# Altium schematic symbol library AXE526124.SchLib: 2 symbols
Pins are listed as number, name and electrical type; pins without a type are passive.

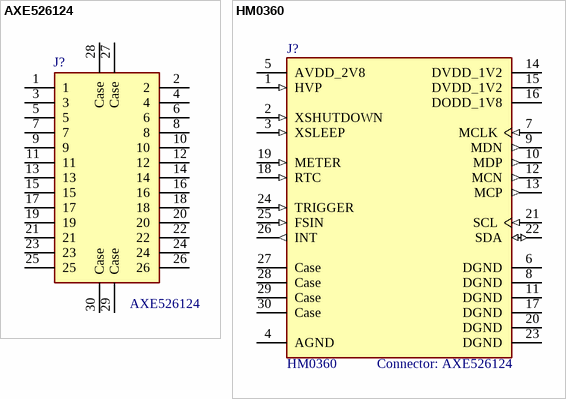
[diagram p0: symbols AXE526124 to HM0360]

## AXE526124
designator J?
26 Position Connector Socket, Center Strip Contacts Surface Mount Gold; Manufacturer_Name: Panasonic; Geometry.Height: 0.97mm; Mouser Part Number: *; Mouser Price/Stock: *; Manufacturer_Part_Number: AXE526124; Datasheet Link: https://www.alldatasheet.com/datasheet-pdf/pdf/393505/PANASONIC/AXE526124.html
footprint AXE526124
pins: 1, 2, 3, 4, 5, 6, 7, 8, 9, 10, 11, 12, 13, 14, 15, 16, 17, 18, 19, 20, 21, 22, 23, 24, 25, 26, 27 Case, 28 Case, 29 Case, 30 Case

## HM0360
designator J?, comment Connector: AXE526124  Camera: HM0360
FFC/FPC Connector, 26 Contact(s), 2 Row(s), Female, Straight, Surface Mount Terminal, Socket; Manufacturer: Panasonic; Connector Type: CARD EDGE CONNECTOR; Option: General Purpose; Filter Feature: No; Mating Information: MULTIPLE MATING PARTS AVAILABLE; Number of Rows Loaded: 2; Number of Contacts: 26; Manufacturer Part Number: AXE526124; RoHS: Yes; Category: Connectors; Mount: Board; Contact Material: Copper Alloy; Contact Finish - Mating: GOLD OVER NICKEL; Contact Finish - Termination: Gold (Au) - with Nickel (Ni) barrier; JESD-609 Code: e4; Body/Shell Style: SOCKET; Contact Gender: Female; Mixed Contacts: No; Mounting Style: STRAIGHT; Termination: SMD/SMT; Terminal Pitch: 0.4mm; Flammability Rating: UL94 V-0; DIN Conformance: No; IEC Conformance: No; MIL Conformance: No; Reach SVHC Compliant: Yes; RoHS Compliant: Yes
footprint AXE526124_HM0360
pins: 1 HVP (in) "Place an external capacitor if the internal OTP pump is used.", 2 XSHUTDOWN (in) "Reset and dpower down control pin (active low)", 3 XSLEEP (in) "Low power sleep mode (active low)", 4 AGND (power), 5 AVDD_2V8 (power), 6 DGND (power), 7 MCLK (in) "Master clock input", 8 DGND (power), 9 MDN (out) "MIPI data negative output", 10 MDP (out) "MIPI data positive output", 11 DGND (power), 12 MCN (out) "MIPI clock negative output", 13 MCP (out) "MIPI clock positive output", 14 DVDD_1V2 (power), 15 DVDD_1V2 (power), 16 DODD_1V8 (power), 17 DGND (power), 18 RTC (in) "Real time clock source input. (Must not be left floating, connect to DGND without RTC clock onput)", 19 METER (in) "Exposure Meter enable pin. (Internal pull-down, active high)", 20 DGND (power), 21 SCL (in), 22 SDA (io), 23 DGND (power), 24 TRIGGER (in) "Frame trigger input. (Internal pull-down, active high)", 25 FSIN (in) "Frame sync (active high)", 26 INT (out) "Interrupt output.", 27 Case, 28 Case, 29 Case, 30 Case